# EAGLE library part M95M01- (library Memory)
M95M01 - 1-Mbit serial SPI bus EEPROM
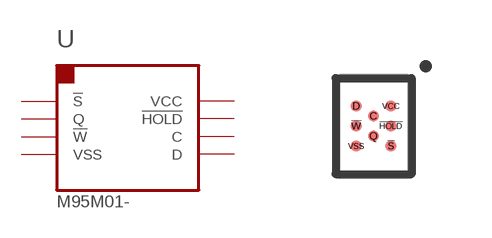
[diagram p9: symbol with the pads of 8-WLCSP; footprint 8-WLCSP]

Designator prefix U

## M95M01-DFCS6TP/K (VCC: 1.7v-5.5v)  [8-WLCSP]
!HOLD  !HOLD  in
!S  !S  in
!W  !W  in
C  C  in
D  D  in
Q  Q  out
VCC  VCC  pwr
VSS  VSS  pwr

## Footprint 8-WLCSP (pad centres in mm)
8-bump wafer-level chip scale package
smd 0.275 x 0.275: !HOLD 0.433,0; !S 0.433,-0.5; !W -0.433,0; C 0,0.25; D -0.433,0.5; Q 0,-0.25; VCC 0.433,0.5; VSS -0.433,-0.5